# Altium footprint library SwitchingRegulator.PcbLib: 15 footprints
Each footprint in its own frame and in the unit in brackets; x right, y up, seen from the top. Pads: shape width x height; smd on the part's side, far side on the other; paste and mask are expansions set on the pad; w line width, h text height; cw(c..) or ccw(c..) is an arc to the next point about the centre after c.
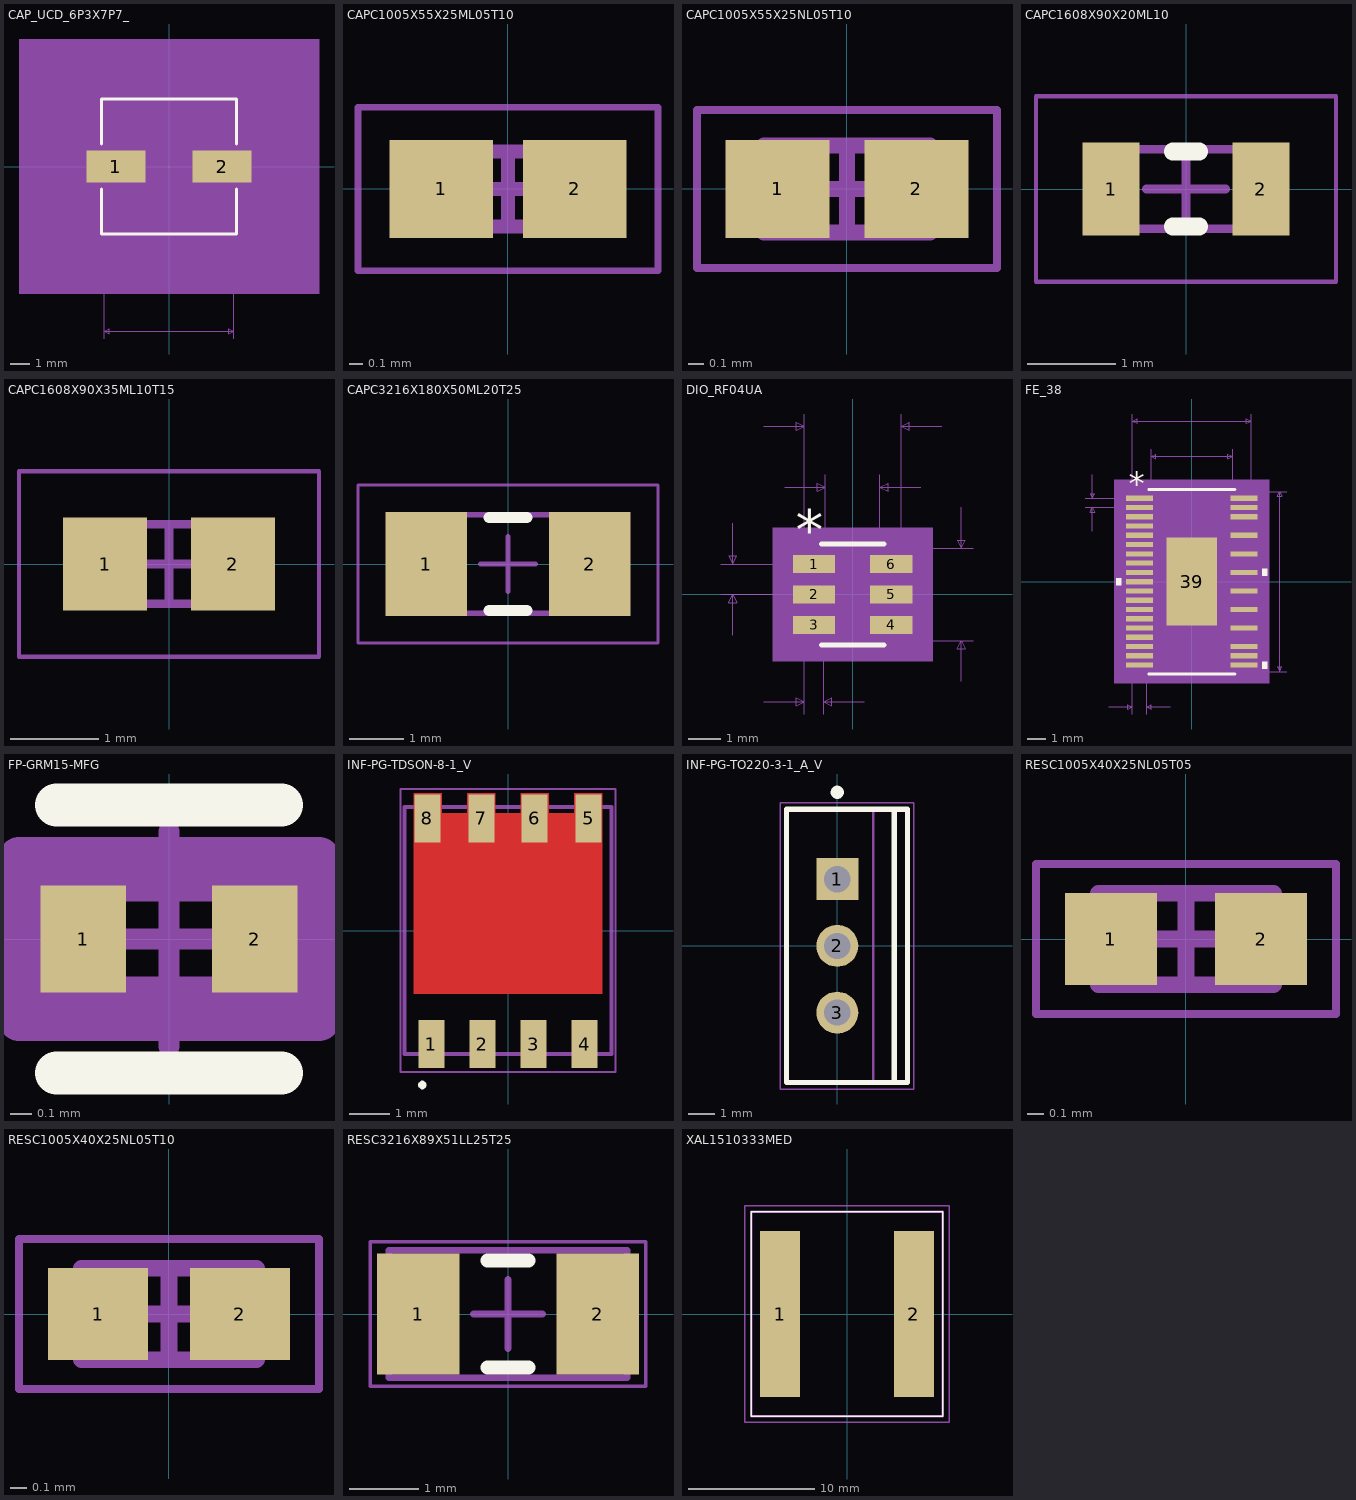
[diagram p0: the footprints below, top view; thin cyan lines are the x and y axes]

## CAP_UCD_6P3X7P7_ [mil]
pads (2):
  rect 118x64 smd paste+0 mask+0: 1(-106.5,0) 2(106.5,0)
Top Overlay:
  lines w6: -135,-45.1 -135,-135 135,-135 135,-45.1 ; -135,45.1 -135,135 135,135 135,45.1
Mechanical 5:
  region: 300.5,-255 -300.5,-255 -300.5,255 300.5,255
Mechanical 7:
  lines w1: -245,-130 -130,-130 -130,-345 ; -245,130 -130,130 ; -195.5,-230 -145.5,-230 ; -145.5,-245 -145.5,-42 ; -145.5,42 -145.5,245 ; -43.5,-245 -43.5,-22 ; 6.5,-230 -43.5,-230 ; 130,-345 130,-130 ; 145.5,42 145.5,245 ; 175.5,-16 280.5,-16 ; 175.5,16 280.5,16 ; 265.5,-66 265.5,-16 ; 265.5,66 265.5,16 ; -230,-130 -230,130 ; -230,-130 -235,-120 -225,-120 -230,-130 ; -230,130 -235,120 -225,120 -230,130 ; -145.5,-230 -155.5,-225 -155.5,-235 -145.5,-230 ; -145.5,230 145.5,230 ; -145.5,230 -135.5,235 -135.5,225 -145.5,230 ; -130,-330 130,-330 ; -130,-330 -120,-325 -120,-335 -130,-330 ; -43.5,-230 -33.5,-225 -33.5,-235 -43.5,-230 ; 130,-330 120,-325 120,-335 130,-330 ; 145.5,230 135.5,235 135.5,225 145.5,230 ; 265.5,-16 260.5,-26 270.5,-26 265.5,-16 ; 265.5,16 260.5,26 270.5,26 265.5,16
  text "Default Padstyle: RX118Y64D0T" at -362.5,-443 h50
  text "Alternate 1 Padstyle: OX60Y90D30P" at -412.5,-543 h50
  text "Alternate 2 Padstyle: OX90Y60D30P" at -412.5,-643 h50
  text "0.032in/0.813mm" at 285.5,-12.5 h25
  text "0.291in/7.391mm" at -93.75,250 h25
  text "0.26in/6.604mm" at -425,-12.5 h25
  text "0.102in/2.591mm" at -188.25,-275 h25
  text "0.26in/6.604mm" at -87.5,-375 h25
Mechanical 13:
  lines w1: -130,-65 -65,-130 ; -130,65 -65,130 ; -130,-130 130,-130 130,130 -130,130 -130,-130
Mechanical 15:
  region: -140,-42 -175.5,-42 -175.5,42 -140,42 -140,140 140,140 140,42 175.5,42 175.5,-42 140,-42 140,-140 -140,-140
  lines w6: -175.5,-42 -175.5,42 -140,42 -140,140 140,140 140,42 175.5,42 175.5,-42 140,-42 140,-140 -140,-140 -140,-42 -175.5,-42
3D body: height 10, standoff 0, extent 0,0 10,10

## CAPC1005X55X25ML05T10 [mm]
pads (2):
  rect 0.76x0.72 smd: 1(-0.49,0) 2(0.49,0)
Mechanical 13:
  lines w0.1: -0.525,-0.275 0.525,-0.275 0.525,0.275 -0.525,0.275 -0.525,-0.275
Mechanical 15:
  lines w0.05: -1.1,-0.6 1.1,-0.6 1.1,0.6 -1.1,0.6 -1.1,-0.6
  lines w0.1: -0.275,0 0.275,0 ; 0,-0.275 0,0.275
3D body: height 0.55, standoff 0, extent 0.275,-0.275 0.525,0.275
3D body: height 0.55, standoff 0, extent -0.525,-0.275 -0.275,0.275
3D body: height 0.55, standoff 0, extent -0.275,-0.275 0.275,0.275

## CAPC1005X55X25NL05T10 [mm]
pads (2):
  rect 0.66x0.62 smd: 1(-0.44,0) 2(0.44,0)
Mechanical 13:
  lines w0.1: -0.525,-0.275 0.525,-0.275 0.525,0.275 -0.525,0.275 -0.525,-0.275
Mechanical 15:
  lines w0.05: -0.95,-0.5 0.95,-0.5 0.95,0.5 -0.95,0.5 -0.95,-0.5
  lines w0.1: -0.275,0 0.275,0 ; 0,-0.275 0,0.275
3D body: height 0.55, standoff 0, extent 0.275,-0.275 0.525,0.275
3D body: height 0.55, standoff 0, extent -0.525,-0.275 -0.275,0.275
3D body: height 0.55, standoff 0, extent -0.275,-0.275 0.275,0.275

## CAPC1608X90X20ML10 [mm]
pads (2):
  rect 0.65x1.05 smd: 1(-0.85,0) 2(0.85,0)
Top Overlay:
  lines w0.2: -0.15,-0.425 0.15,-0.425 ; -0.15,0.425 0.15,0.425
Mechanical 13:
  lines w0.1: -0.85,-0.45 0.85,-0.45 0.85,0.45 -0.85,0.45 -0.85,-0.45
Mechanical 15:
  lines w0.05: -1.7,-1.05 1.7,-1.05 1.7,1.05 -1.7,1.05 -1.7,-1.05
  lines w0.1: -0.45,0 0.45,0 ; 0,-0.45 0,0.45
3D body: height 0.9, standoff 0, extent 0.65,-0.45 0.85,0.45
3D body: height 0.9, standoff 0, extent -0.85,-0.45 -0.65,0.45
3D body: height 0.9, standoff 0, extent -0.65,-0.45 0.65,0.45

## CAPC1608X90X35ML10T15 [mm]
pads (2):
  rect 0.95x1.05 smd: 1(-0.725,0) 2(0.725,0)
Mechanical 13:
  lines w0.1: -0.85,-0.45 0.85,-0.45 0.85,0.45 -0.85,0.45 -0.85,-0.45
Mechanical 15:
  lines w0.05: -1.7,-1.05 1.7,-1.05 1.7,1.05 -1.7,1.05 -1.7,-1.05
  lines w0.1: -0.45,0 0.45,0 ; 0,-0.45 0,0.45
3D body "CAPC1608X09M.step": height 0.9, standoff 0, extent -0.85,-0.45 0.85,0.45

## CAPC3216X180X50ML20T25 [mm]
pads (2):
  rect 1.5x1.9 smd: 1(-1.5,0) 2(1.5,0)
Top Overlay:
  lines w0.2: -0.35,-0.85 0.35,-0.85 ; -0.35,0.85 0.35,0.85
Mechanical 13:
  lines w0.1: -1.7,-0.9 -1.7,0.9 1.7,0.9 1.7,-0.9 -1.7,-0.9
Mechanical 15:
  lines w0.05: -2.75,-1.45 -2.75,1.45 2.75,1.45 2.75,-1.45 -2.75,-1.45
  lines w0.1: -0.5,0 0.5,0 ; 0,-0.5 0,0.5
3D body: height 1.8, standoff 0, extent -1.2,-0.9 1.2,0.9
3D body: height 1.8, standoff 0, extent -1.7,-0.9 -1.2,0.9
3D body: height 1.8, standoff 0, extent 1.2,-0.9 1.7,0.9

## DIO_RF04UA [mil]
pads (6):
  rect 52x22 smd paste+0 mask+0: 1(-47.5,37.4) 2(-47.5,0) 3(-47.5,-37.4) 4(47.5,-37.4) 5(47.5,0) 6(47.5,37.4)
Top Overlay:
  lines w6: -38.5,-62 38.5,-62 ; -38.5,62 38.5,62
  text "*" at -70,54.4 h50
Mechanical 5:
  region: 98.5,-82 -98.5,-82 -98.5,82 98.5,82
Mechanical 7:
  lines w1: -162.5,0 -47.5,0 ; -162.5,37.4 -47.5,37.4 ; -147.5,-50 -147.5,0 ; -147.5,87.4 -147.5,37.4 ; -109.5,-132 -59.5,-132 ; -109.5,207 -59.5,207 ; -83.5,132 -33.5,132 ; -59.5,-147 -59.5,0 -59.5,222 ; -35.5,-147 -35.5,0 ; -33.5,0 -33.5,147 ; 0,-57 148.5,-57 ; 0,57 148.5,57 ; 14.5,-132 -35.5,-132 ; 33.5,0 33.5,147 ; 59.5,0 59.5,222 ; 83.5,132 33.5,132 ; 109.5,207 59.5,207 ; 133.5,-107 133.5,-57 ; 133.5,107 133.5,57 ; -147.5,0 -142.5,-10 -152.5,-10 -147.5,0 ; -147.5,37.4 -142.5,47.4 -152.5,47.4 -147.5,37.4 ; -59.5,-132 -69.5,-137 -69.5,-127 -59.5,-132 ; -59.5,207 -69.5,202 -69.5,212 -59.5,207 ; -35.5,-132 -25.5,-137 -25.5,-127 -35.5,-132 ; -33.5,132 -43.5,127 -43.5,137 -33.5,132 ; 33.5,132 43.5,127 43.5,137 33.5,132 ; 59.5,207 69.5,202 69.5,212 59.5,207 ; 133.5,-57 138.5,-67 128.5,-67 133.5,-57 ; 133.5,57 138.5,67 128.5,67 133.5,57
  text "0.024in/0.61mm" at -135,-177 h25
  text "0.037in/0.95mm" at -342.5,6.2 h25
  text "0.114in/2.896mm" at 153.5,-12.5 h25
  text "0.119in/3.023mm" at -93.75,227 h25
  text "0.067in/1.702mm" at -93.75,152 h25
  text "Alt 2 Padstyle: OX90Y60D30P" at -337.5,-557 h50
  text "Alt 1 Padstyle: OX60Y90D30P" at -337.5,-497 h50
  text "Pin One Padstyle: RX52Y22D0T" at -350,-317 h50
  text "Default Padstyle: RX52Y22D0T" at -350,-257 h50
Mechanical 13:
  lines w0: -12,57 ccw(c0,57) 12,57
  lines w1: -59.5,-47.4 -33.5,-47.4 -33.5,-27.4 -59.5,-27.4 -59.5,-47.4 ; -59.5,-10 -33.5,-10 -33.5,10 -59.5,10 -59.5,-10 ; -59.5,27.4 -33.5,27.4 -33.5,47.4 -59.5,47.4 -59.5,27.4 ; -33.5,-57 -33.5,57 33.5,57 33.5,-57 -33.5,-57 ; 33.5,-47.4 59.5,-47.4 59.5,-27.4 33.5,-27.4 33.5,-47.4 ; 33.5,-10 59.5,-10 59.5,10 33.5,10 33.5,-10 ; 33.5,27.4 59.5,27.4 59.5,47.4 33.5,47.4 33.5,27.4
  text "*" at -31,4 h50
Mechanical 15:
  region: -43.5,-58.4 -83.5,-58.4 -83.5,58.4 -43.5,58.4 -43.5,67 43.5,67 43.5,58.4 83.5,58.4 83.5,-58.4 43.5,-58.4 43.5,-67 -43.5,-67
  lines w6: -83.5,-58.4 -43.5,-58.4 -43.5,-67 43.5,-67 43.5,-58.4 83.5,-58.4 83.5,58.4 43.5,58.4 43.5,67 -43.5,67 -43.5,58.4 -83.5,58.4 -83.5,-58.4
3D body: height 10, standoff 0, extent 0,0 10,10

## FE_38 [mil]
pads (32):
  rect 58x11 smd paste+0 mask+0: 1(-111,177.17) 2(-111,157.48) 3(-111,137.8) 4(-111,118.11) 5(-111,98.43) 6(-111,78.74) 7(-111,59.06) 8(-111,39.37) 9(-111,19.68) 10(-111,0) 11(-111,-19.68) 12(-111,-39.37) 13(-111,-59.06) 14(-111,-78.74) 15(-111,-98.43) 16(-111,-118.11) 17(-111,-137.8) 18(-111,-157.48) 19(-111,-177.17) 20(111,-177.17) 21(111,-157.48) 22(111,-137.8) 24(111,-98.43) 26(111,-59.06) 28(111,-19.68) 30(111,19.69) 32(111,59.06) 34(111,98.43) 36(111,137.8) 37(111,157.48) 38(111,177.17)
  rect 108x187 smd paste-93 mask+0: 39(0,0)
Top Overlay:
  region: 150,27.19 160,27.19 160,12.19 150,12.19
  region: 150,-169.67 160,-169.67 160,-184.67 150,-184.67
  region: -150,7.5 -160,7.5 -160,-7.5 -150,-7.5
  lines w6: -91.5,-196 91.5,-196 ; -91.5,196 91.5,196
  text "*" at -133.5,183.17 h50
Top Paste:
  region: 50.06,-35.1 3.94,-35.1 3.94,-89.56 50.06,-89.56
  region: 50.06,27.23 3.94,27.23 3.94,-27.23 50.06,-27.23
  region: 50.06,89.56 3.94,89.56 3.94,35.1 50.06,35.1
  region: -3.94,-35.1 -50.06,-35.1 -50.06,-89.56 -3.94,-89.56
  region: -3.94,27.23 -50.06,27.23 -50.06,-27.23 -3.94,-27.23
  region: -3.94,89.56 -50.06,89.56 -50.06,35.1 -3.94,35.1
Mechanical 5:
  region: 165,-216 -165,-216 -165,216 165,216
Mechanical 7:
  lines w1: -226,157.48 -111,157.48 ; -226,177.17 -111,177.17 ; -211,107.48 -211,157.48 ; -211,227.17 -211,177.17 ; -176,-266 -126,-266 ; -126,-281 -126,0 -126,356 ; -96,-281 -96,0 ; -86.5,0 -86.5,281 ; -46,-266 -96,-266 ; 0,-191 201.5,-191 ; 0,191 201.5,191 ; 86.5,0 86.5,281 ; 126,0 126,356 ; -211,157.48 -206,147.48 -216,147.48 -211,157.48 ; -211,177.17 -206,187.17 -216,187.17 -211,177.17 ; -126,-266 -136,-271 -136,-261 -126,-266 ; -126,341 -116,336 -116,346 -126,341 ; -126,341 126,341 ; -96,-266 -86,-271 -86,-261 -96,-266 ; -86.5,266 -76.5,261 -76.5,271 -86.5,266 ; -86.5,266 86.5,266 ; 86.5,266 76.5,261 76.5,271 86.5,266 ; 126,341 116,336 116,346 126,341 ; 186.5,-191 191.5,-181 181.5,-181 186.5,-191 ; 186.5,-191 186.5,191 ; 186.5,191 191.5,181 181.5,181 186.5,191
  text "0.03in/0.762mm" at -198.5,-311 h25
  text "0.02in/0.5mm" at -381,154.82 h25
  text "0.382in/9.703mm" at 206.5,-12.5 h25
  text "0.252in/6.401mm" at -93.75,361 h25
  text "0.173in/4.394mm" at -93.75,286 h25
  text "Alt 2 Padstyle: OX90Y60D30P" at -337.5,-691 h50
  text "Alt 1 Padstyle: OX60Y90D30P" at -337.5,-631 h50
  text "Heat Tab Padstyle: RX108Y187D0T" at -387.5,-511 h50
  text "Pin One Padstyle: RX58Y11D0T" at -350,-451 h50
  text "Default Padstyle: RX58Y11D0T" at -350,-391 h50
Mechanical 13:
  lines w0: -12,191 ccw(c0,191) 12,191
  lines w1: -126,-182.67 -86.5,-182.67 -86.5,-171.67 -126,-171.67 -126,-182.67 ; -126,-162.98 -86.5,-162.98 -86.5,-151.98 -126,-151.98 -126,-162.98 ; -126,-143.3 -86.5,-143.3 -86.5,-132.3 -126,-132.3 -126,-143.3 ; -126,-123.61 -86.5,-123.61 -86.5,-112.61 -126,-112.61 -126,-123.61 ; -126,-103.93 -86.5,-103.93 -86.5,-92.93 -126,-92.93 -126,-103.93 ; -126,-84.24 -86.5,-84.24 -86.5,-73.24 -126,-73.24 -126,-84.24 ; -126,-64.56 -86.5,-64.56 -86.5,-53.56 -126,-53.56 -126,-64.56 ; -126,-44.87 -86.5,-44.87 -86.5,-33.87 -126,-33.87 -126,-44.87 ; -126,-25.18 -86.5,-25.18 -86.5,-14.19 -126,-14.19 -126,-25.18 ; -126,-5.5 -86.5,-5.5 -86.5,5.5 -126,5.5 -126,-5.5 ; -126,14.19 -86.5,14.19 -86.5,25.18 -126,25.18 -126,14.19 ; -126,33.87 -86.5,33.87 -86.5,44.87 -126,44.87 -126,33.87 ; -126,53.56 -86.5,53.56 -86.5,64.56 -126,64.56 -126,53.56 ; -126,73.24 -86.5,73.24 -86.5,84.24 -126,84.24 -126,73.24 ; -126,92.93 -86.5,92.93 -86.5,103.93 -126,103.93 -126,92.93 ; -126,112.61 -86.5,112.61 -86.5,123.61 -126,123.61 -126,112.61 ; -126,132.3 -86.5,132.3 -86.5,143.3 -126,143.3 -126,132.3 ; -126,151.98 -86.5,151.98 -86.5,162.98 -126,162.98 -126,151.98 ; -126,171.67 -86.5,171.67 -86.5,182.67 -126,182.67 -126,171.67 ; -86.5,-191 -86.5,191 86.5,191 86.5,-191 -86.5,-191 ; 86.5,-182.67 126,-182.67 126,-171.67 86.5,-171.67 86.5,-182.67 ; 86.5,-162.98 126,-162.98 126,-151.98 86.5,-151.98 86.5,-162.98 ; 86.5,-143.3 126,-143.3 126,-132.3 86.5,-132.3 86.5,-143.3 ; 86.5,-103.93 126,-103.93 126,-92.93 86.5,-92.93 86.5,-103.93 ; 86.5,-64.56 126,-64.56 126,-53.56 86.5,-53.56 86.5,-64.56 ; 86.5,-25.18 126,-25.18 126,-14.19 86.5,-14.19 86.5,-25.18 ; 86.5,14.19 126,14.19 126,25.19 86.5,25.19 86.5,14.19 ; 86.5,53.56 126,53.56 126,64.56 86.5,64.56 86.5,53.56 ; 86.5,92.93 126,92.93 126,103.93 86.5,103.93 86.5,92.93 ; 86.5,132.3 126,132.3 126,143.3 86.5,143.3 86.5,132.3 ; 86.5,151.98 126,151.98 126,162.98 86.5,162.98 86.5,151.98 ; 86.5,171.67 126,171.67 126,182.67 86.5,182.67 86.5,171.67
  text "*" at -84,138 h50
Mechanical 15:
  region: -96.5,-192.67 -150,-192.67 -150,192.67 -96.5,192.67 -96.5,201 96.5,201 96.5,192.67 150,192.67 150,-192.67 96.5,-192.67 96.5,-201 -96.5,-201
  lines w6: -150,-192.67 -96.5,-192.67 -96.5,-201 96.5,-201 96.5,-192.67 150,-192.67 150,192.67 96.5,192.67 96.5,201 -96.5,201 -96.5,192.67 -150,192.67 -150,-192.67
3D body: height 10, standoff 0, extent 0,0 10,10

## FP-GRM15-MFG [mm]
pads (2):
  rect 0.4x0.5 smd paste+0 mask+0: 1(-0.4,0) 2(0.4,0)
Top Overlay:
  lines w0.2: -0.525,-0.625 0.525,-0.625 ; -0.525,0.625 0.525,0.625
Top 3D Body:
  lines w0.2: -0.525,-0.275 -0.525,0.275 0.525,0.275 0.525,-0.275 -0.525,-0.275
Top Courtyard:
  lines w0.2: -0.7,-0.375 -0.7,0.375 0.7,0.375 0.7,-0.375 -0.7,-0.375
Top Assembly:
  lines w0.2: -0.7,-0.375 -0.7,0.375 0.7,0.375 0.7,-0.375 -0.7,-0.375
  text ".Designator" at 0,0.188 h1
Top Component Center:
  lines w0.1: -0.5,0 0.5,0 ; 0,-0.5 0,0.5
3D body "Cap_Murata_GRM155R71C104KA88D_eec.STEP": height 0.25, standoff 0, extent -0.7,-0.375 0.7,0.375

## INF-PG-TDSON-8-1_V [mm]
pads (8):
  rect 0.65x1.2 smd: 1(-1.905,-2.825) 2(-0.635,-2.825) 3(0.635,-2.825) 4(1.905,-2.825) 5(2.007,2.794) 6(0.66,2.794) 7(-0.66,2.794) 8(-2.007,2.794)
Top Layer:
  region: 0.315,2.925 1.015,2.925 1.015,3.425 0.315,3.425
  region: -1.015,2.925 -0.315,2.925 -0.315,3.425 -1.015,3.425
  region: 1.65,2.925 2.35,2.925 2.35,3.425 1.65,3.425
  region: -2.35,2.925 -1.65,2.925 -1.65,3.425 -2.35,3.425
  region: -2.35,2.925 -2.35,-1.575 2.35,-1.575 2.35,2.925
Top Overlay:
  region: -2.234,-3.842 -2.234,-3.862 -2.218,-3.899 -2.19,-3.927 -2.153,-3.942 -2.134,-3.942 -2.114,-3.942 -2.077,-3.927 -2.049,-3.899 -2.034,-3.862 -2.034,-3.842 -2.034,-3.822 -2.049,-3.785 -2.077,-3.757 -2.114,-3.742 -2.134,-3.742 -2.153,-3.742 -2.19,-3.757 -2.218,-3.785 -2.234,-3.822
Mechanical 13:
  lines w0.1: -2.575,-3.075 2.575,-3.075 2.575,3.075 -2.575,3.075 -2.575,-3.075
Mechanical 15:
  lines w0.05: -2.675,-3.525 2.675,-3.525 2.675,3.525 -2.675,3.525 -2.675,-3.525
  lines w0.1: -0.5,0 0.5,0 ; 0,-0.5 0,0.5
3D body: height 1, standoff 0, extent -2.575,-3.075 2.575,3.075

## INF-PG-TO220-3-1_A_V [mm]
pads (3):
  rect 1.6x1.6 hole 1: 1(0,2.54)
  round 1.6 hole 1: 2(0,0) 3(0,-2.54)
Top Overlay:
  circle w0.25: c0,5.85 r0.125
  lines w0.2: 2.17,-5.2 2.17,5.2 ; -1.93,-5.2 -1.93,5.2 2.67,5.2 2.67,-5.2 -1.93,-5.2
Mechanical 13:
  lines w0.1: 1.37,-5.2 1.37,5.2 ; -1.93,-5.2 2.67,-5.2 2.67,5.2 -1.93,5.2 -1.93,-5.2
Mechanical 15:
  lines w0.05: -2.18,-5.45 2.92,-5.45 2.92,5.45 -2.18,5.45 -2.18,-5.45
  lines w0.1: -0.5,0 0.5,0 ; 0,-0.5 0,0.5
3D body: height 20.75, standoff 19.83, extent 1.37,-5.025 2.67,5.025
3D body: height 18.32, standoff 17.95, extent 1.37,-5.025 2.67,-1.875
3D body: height 18.32, standoff 17.95, extent 1.37,1.875 2.67,5.025
3D body: height 17.95, standoff 17.58, extent 1.37,-5.025 2.67,-1.875
3D body: height 17.95, standoff 17.58, extent 1.37,1.875 2.67,5.025
3D body: height 18.67, standoff 18.32, extent 1.37,-5.025 2.67,-1.839
3D body: height 18.67, standoff 18.32, extent 1.37,1.839 2.67,5.025
3D body: height 17.59, standoff 17.23, extent 1.37,-5.025 2.67,-1.839
3D body: height 17.59, standoff 17.23, extent 1.37,1.839 2.67,5.025
3D body: height 19, standoff 18.67, extent 1.37,-5.025 2.67,-1.732
3D body: height 19, standoff 18.67, extent 1.37,1.732 2.67,5.025
3D body: height 17.24, standoff 16.91, extent 1.37,-5.025 2.67,-1.732
3D body: height 17.24, standoff 16.91, extent 1.37,1.732 2.67,5.025
3D body: height 19.28, standoff 18.99, extent 1.37,-5.025 2.67,-1.559
3D body: height 19.28, standoff 18.99, extent 1.37,1.559 2.67,5.025
3D body: height 16.91, standoff 16.62, extent 1.37,-5.025 2.67,-1.559
3D body: height 16.91, standoff 16.62, extent 1.37,1.559 2.67,5.025
3D body: height 19.51, standoff 19.28, extent 1.37,-5.025 2.67,-1.326
3D body: height 19.51, standoff 19.28, extent 1.37,1.326 2.67,5.025
3D body: height 16.63, standoff 16.39, extent 1.37,-5.025 2.67,-1.326
3D body: height 16.63, standoff 16.39, extent 1.37,1.326 2.67,5.025
3D body: height 19.69, standoff 19.51, extent 1.37,-5.025 2.67,-1.042
3D body: height 19.69, standoff 19.51, extent 1.37,1.042 2.67,5.025
3D body: height 16.4, standoff 16.22, extent 1.37,-5.025 2.67,-1.042
3D body: height 16.4, standoff 16.22, extent 1.37,1.042 2.67,5.025
3D body: height 19.79, standoff 19.68, extent 1.37,-5.025 2.67,-0.718
3D body: height 19.79, standoff 19.68, extent 1.37,0.718 2.67,5.025
3D body: height 16.22, standoff 16.11, extent 1.37,-5.025 2.67,-0.718
3D body: height 16.22, standoff 16.11, extent 1.37,0.718 2.67,5.025
3D body: height 19.83, standoff 19.79, extent 1.37,-5.025 2.67,-0.366
3D body: height 19.83, standoff 19.79, extent 1.37,0.366 2.67,5.025
3D body: height 16.12, standoff 16.08, extent 1.37,-5.025 2.67,-0.366
3D body: height 16.12, standoff 16.08, extent 1.37,0.366 2.67,5.025
3D body: height 16.08, standoff 14.35, extent 1.37,-5.025 2.67,5.025
3D body: height 14.35, standoff 4.8, extent -1.93,-5.2 2.67,5.2
3D body: height 0, standoff -1.6, extent -0.235,-2.92 0.235,-2.16
3D body: height 4.8, standoff 0, extent -0.235,-3.13 0.235,-1.95
3D body: height 0, standoff -1.6, extent -0.235,-0.38 0.235,0.38
3D body: height 4.8, standoff 0, extent -0.235,-0.59 0.235,0.59
3D body: height 0, standoff -1.6, extent -0.235,2.16 0.235,2.92
3D body: height 4.8, standoff 0, extent -0.235,1.95 0.235,3.13

## RESC1005X40X25NL05T05 [mm]
pads (2):
  rect 0.55x0.55 smd: 1(-0.45,0) 2(0.45,0)
Mechanical 13:
  lines w0.1: -0.525,-0.275 -0.525,0.275 0.525,0.275 0.525,-0.275 -0.525,-0.275
Mechanical 15:
  lines w0.05: -0.9,-0.45 -0.9,0.45 0.9,0.45 0.9,-0.45 -0.9,-0.45
  lines w0.1: -0.275,0 0.275,0 ; 0,-0.275 0,0.275
3D body: height 0.4, standoff 0, extent -0.275,-0.275 0.275,0.275
3D body: height 0.4, standoff 0, extent -0.525,-0.275 -0.275,0.275
3D body: height 0.4, standoff 0, extent 0.275,-0.275 0.525,0.275

## RESC1005X40X25NL05T10 [mm]
pads (2):
  rect 0.6x0.55 smd: 1(-0.425,0) 2(0.425,0)
Mechanical 13:
  lines w0.1: -0.525,-0.275 -0.525,0.275 0.525,0.275 0.525,-0.275 -0.525,-0.275
Mechanical 15:
  lines w0.05: -0.9,-0.45 -0.9,0.45 0.9,0.45 0.9,-0.45 -0.9,-0.45
  lines w0.1: -0.275,0 0.275,0 ; 0,-0.275 0,0.275
3D body: height 0.4, standoff 0, extent -0.275,-0.275 0.275,0.275
3D body: height 0.4, standoff 0, extent -0.525,-0.275 -0.275,0.275
3D body: height 0.4, standoff 0, extent 0.275,-0.275 0.525,0.275

## RESC3216X89X51LL25T25 [mm]
pads (2):
  rect 1.2x1.75 smd: 1(-1.3,0) 2(1.3,0)
Top Overlay:
  lines w0.2: -0.3,-0.775 0.3,-0.775 ; -0.3,0.775 0.3,0.775
Mechanical 13:
  lines w0.1: -1.725,-0.925 1.725,-0.925 1.725,0.925 -1.725,0.925 -1.725,-0.925
Mechanical 15:
  lines w0.05: -2,-1.05 2,-1.05 2,1.05 -2,1.05 -2,-1.05
  lines w0.1: -0.5,0 0.5,0 ; 0,-0.5 0,0.5
3D body: height 0.89, standoff 0, extent 1.215,-0.925 1.725,0.925
3D body: height 0.89, standoff 0, extent -1.725,-0.925 -1.215,0.925
3D body: height 0.89, standoff 0, extent -1.215,-0.925 1.215,0.925

## XAL1510333MED [mm]
pads (2):
  rect 3.18x13.2 smd: 1(-5.3,0) 2(5.3,0)
Top Overlay:
  lines w0.1: -7.6,-8.1 7.6,-8.1 7.6,8.1 -7.6,8.1 -7.6,-8.1
Mechanical 13:
  lines w0.2: -7.6,-8.1 7.6,-8.1 7.6,8.1 -7.6,8.1 -7.6,-8.1
Mechanical 15:
  lines w0.1: -8.1,-8.6 8.1,-8.6 8.1,8.6 -8.1,8.6 -8.1,-8.6
3D body "XAL1510-333MED.stp": height 11.1, standoff 0, extent -7.6,-8.1 7.6,8.1